# Altium footprint library TPS08U.PcbLib: 1 footprints
Each footprint in its own frame and in the unit in brackets; x right, y up, seen from the top. Pads: shape width x height; smd on the part's side, far side on the other; paste and mask are expansions set on the pad; w line width, h text height; cw(c..) or ccw(c..) is an arc to the next point about the centre after c.
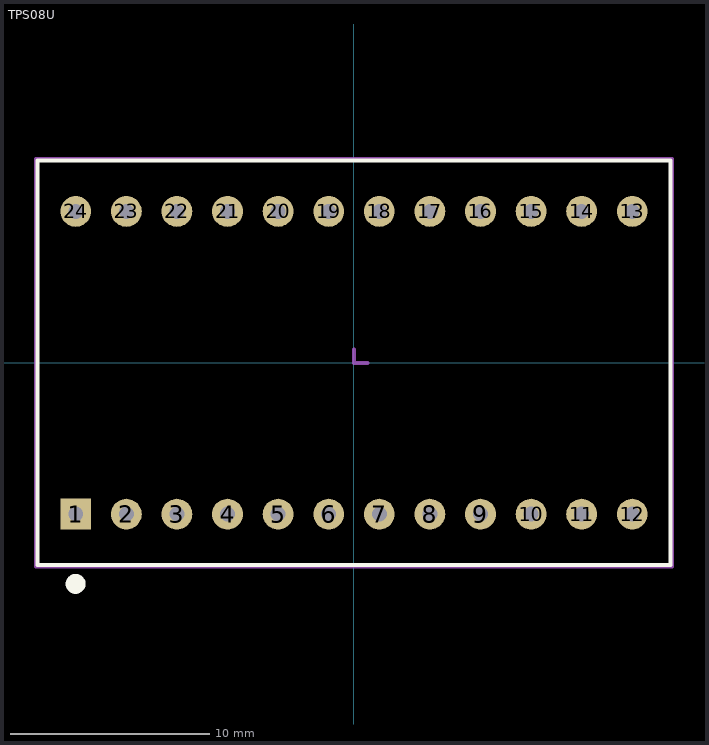
[diagram p0: the footprint, top view; thin cyan lines are the x and y axes]

## TPS08U [mm]
height 9.5
pads (24):
  rect 1.55x1.55 hole 0.75: 1(-13.97,-7.6)
  round 1.55 hole 0.75: 2(-11.43,-7.6) 3(-8.89,-7.6) 4(-6.35,-7.6) 5(-3.81,-7.6) 6(-1.27,-7.6) 7(1.27,-7.6) 8(3.81,-7.6) 9(6.35,-7.6) 10(8.89,-7.6) 11(11.43,-7.6) 12(13.97,-7.6) 13(13.97,7.6) 14(11.43,7.6) 15(8.89,7.6) 16(6.35,7.6) 17(3.81,7.6) 18(1.27,7.6) 19(-1.27,7.6) 20(-3.81,7.6) 21(-6.35,7.6) 22(-8.89,7.6) 23(-11.43,7.6) 24(-13.97,7.6)
Top Overlay:
  circle w0.5: c-13.975,-11.1 r0.25
  lines w0.2: -15.9,-10.15 15.9,-10.15 15.9,10.15 -15.9,10.15 -15.9,-10.15
Mechanical 15:
  lines w0.2: 0,0.675 0,0 0.675,0 ; -15.975,-10.225 -15.975,10.225 15.975,10.225 15.975,-10.225 -15.975,-10.225